# Altium footprint library 4.35-HT-3.96mm连接器.PcbLib: 60 footprints (part 2 of 4)
Each footprint in its own frame and in the unit in brackets; x right, y up, seen from the top. Pads: shape width x height; smd on the part's side, far side on the other; paste and mask are expansions set on the pad; w line width, h text height; cw(c..) or ccw(c..) is an arc to the next point about the centre after c.
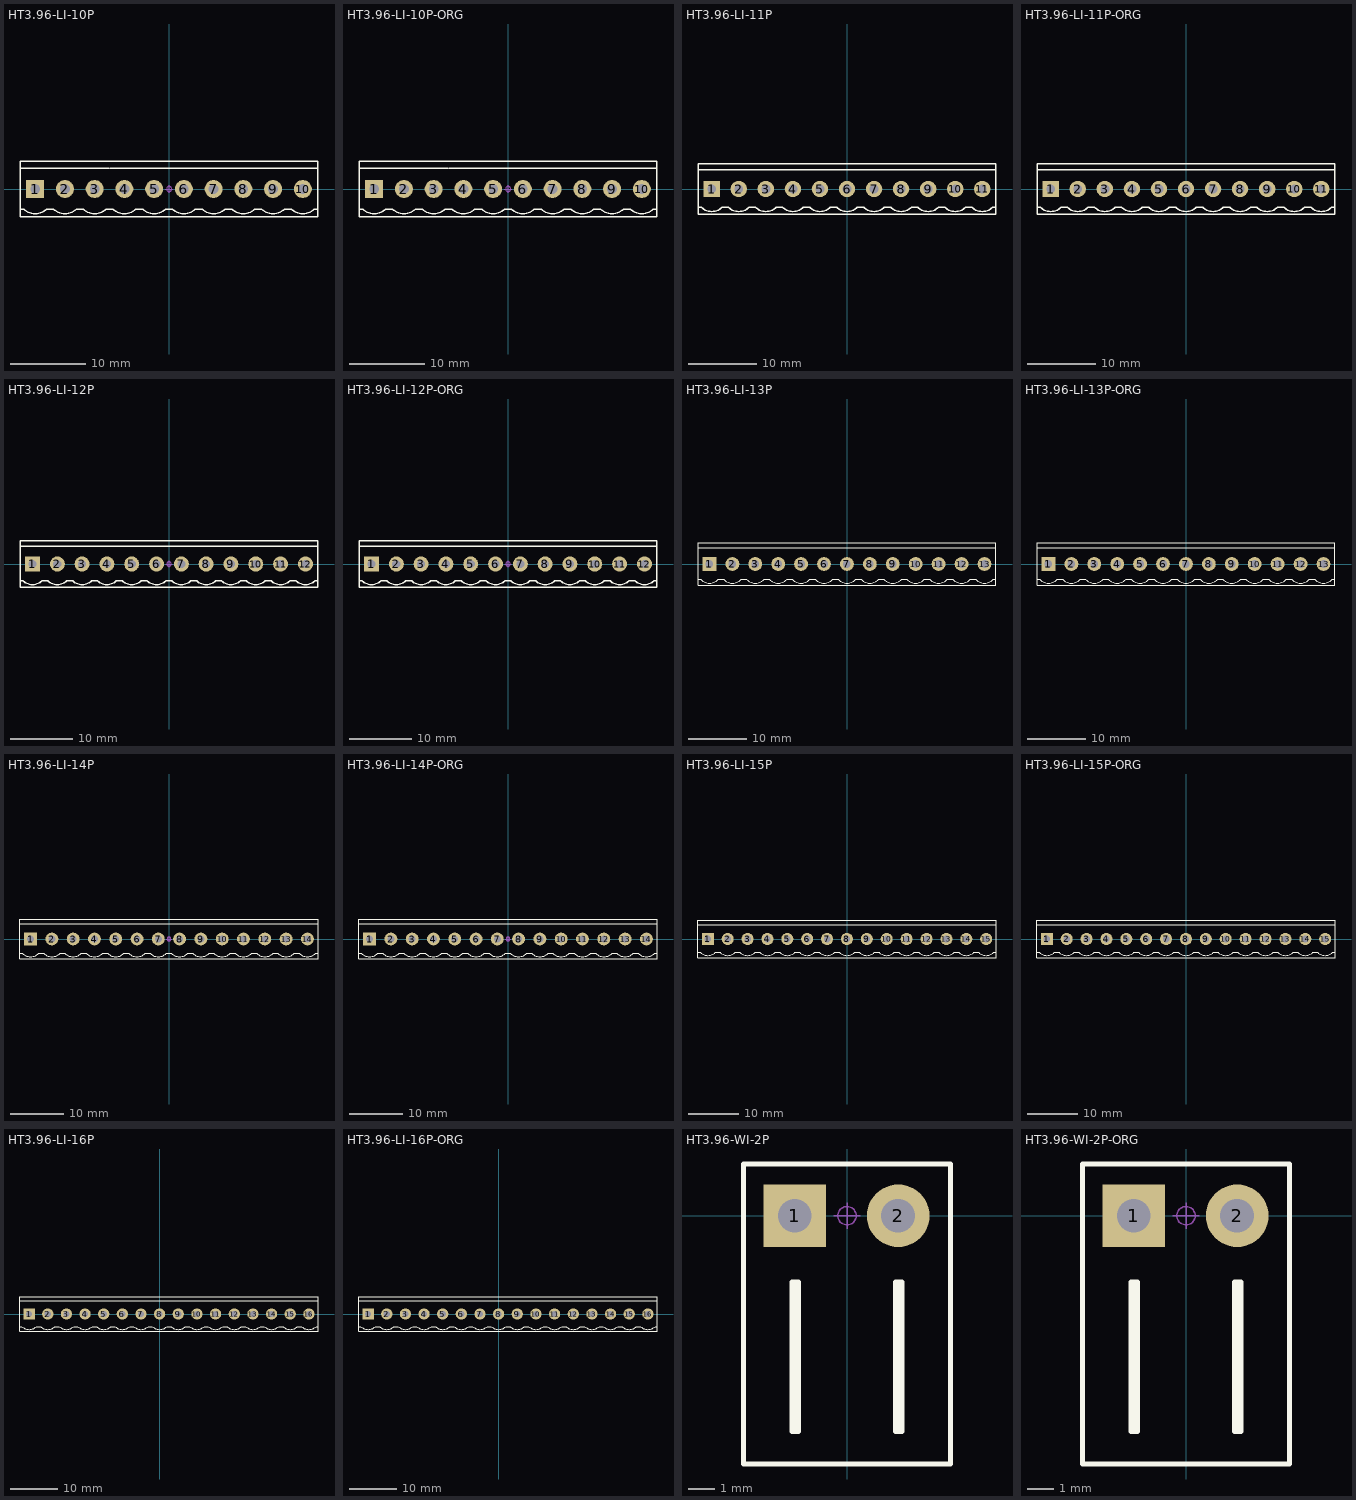
[diagram p1: the footprints below, top view; thin cyan lines are the x and y axes]

## HT3.96-LI-10P [mm] "HT3.96立插端子"
pads (10):
  rect 2.4x2.4 hole 1.3: 1(-17.84,0)
  round 2.4 hole 1.3: 2(-13.88,0) 3(-9.92,0) 4(-5.96,0) 5(-2,0) 6(1.96,0) 7(5.92,0) 8(9.88,0) 9(13.84,0) 10(17.8,0)
Top Overlay:
  lines w0.203: -19.82,-2.667 -19.364,-2.667 ccw(c-17.84,-1.143) -16.316,-2.667 -15.86,-2.667 -15.404,-2.667 ccw(c-13.88,-1.143) -12.356,-2.667 -11.9,-2.667 -11.444,-2.667 ccw(c-9.92,-1.143) -8.396,-2.667 -7.94,-2.667 -7.484,-2.667 ccw(c-5.96,-1.143) -4.436,-2.667 -3.98,-2.667 -3.524,-2.667 ccw(c-2,-1.143) -0.476,-2.667 -0.02,-2.667 0.436,-2.667 ccw(c1.96,-1.143) 3.484,-2.667 3.94,-2.667 4.396,-2.667 ccw(c5.92,-1.143) 7.444,-2.667 7.9,-2.667 8.356,-2.667 ccw(c9.88,-1.143) 11.404,-2.667 11.86,-2.667 12.316,-2.667 ccw(c13.84,-1.143) 15.364,-2.667 15.82,-2.667 16.276,-2.667 ccw(c17.8,-1.143) 19.324,-2.667 19.78,-2.667 ; -19.82,2.794 -15.935,2.794 ; -15.86,2.794 -11.975,2.794 ; -11.9,2.794 -8.015,2.794 ; -7.94,2.794 -4.055,2.794 ; -3.98,2.794 -0.095,2.794 ; -0.02,2.794 3.865,2.794 ; 3.94,2.794 7.825,2.794 ; 7.9,2.794 11.785,2.794 ; 11.86,2.794 15.745,2.794 ; 15.82,2.794 19.705,2.794 ; -19.82,-3.7 -15.86,-3.7 -11.9,-3.7 -7.94,-3.7 -3.98,-3.7 -0.02,-3.7 3.94,-3.7 7.9,-3.7 11.86,-3.7 15.82,-3.7 19.78,-3.7 19.78,3.7 15.82,3.7 11.86,3.7 7.9,3.7 3.94,3.7 -0.02,3.7 -3.98,3.7 -7.94,3.7 -11.9,3.7 -15.86,3.7 -19.82,3.7 -19.82,-3.7
Mechanical 15:
  circle w0.05: c0,0 r0.35
  lines w0.05: -0.5,0 0.5,0 ; 0,-0.5 0,0.5
3D body "HT3.96-LI-1P.STEP": height 10.05, standoff -2.95, extent -19.82,-3.7 -15.82,3.7
3D body "HT3.96-LI-1P.STEP": height 10.05, standoff -2.95, extent -15.86,-3.7 -11.86,3.7
3D body "HT3.96-LI-1P.STEP": height 10.05, standoff -2.95, extent -11.9,-3.7 -7.9,3.7
3D body "HT3.96-LI-1P.STEP": height 10.05, standoff -2.95, extent -7.94,-3.7 -3.94,3.7
3D body "HT3.96-LI-1P.STEP": height 10.05, standoff -2.95, extent -3.98,-3.7 0.02,3.7
3D body "HT3.96-LI-1P.STEP": height 10.05, standoff -2.95, extent -0.02,-3.7 3.98,3.7
3D body "HT3.96-LI-1P.STEP": height 10.05, standoff -2.95, extent 3.94,-3.7 7.94,3.7
3D body "HT3.96-LI-1P.STEP": height 10.05, standoff -2.95, extent 7.9,-3.7 11.9,3.7
3D body "HT3.96-LI-1P.STEP": height 10.05, standoff -2.95, extent 11.86,-3.7 15.86,3.7
3D body "HT3.96-LI-1P.STEP": height 10.05, standoff -2.95, extent 15.82,-3.7 19.82,3.7

## HT3.96-LI-10P-ORG [mm] "HT3.96立插端子"
pads (10):
  rect 2.4x2.4 hole 1.3: 1(-17.84,0)
  round 2.4 hole 1.3: 2(-13.88,0) 3(-9.92,0) 4(-5.96,0) 5(-2,0) 6(1.96,0) 7(5.92,0) 8(9.88,0) 9(13.84,0) 10(17.8,0)
Top Overlay:
  lines w0.203: -19.82,-2.667 -19.364,-2.667 ccw(c-17.84,-1.143) -16.316,-2.667 -15.86,-2.667 -15.404,-2.667 ccw(c-13.88,-1.143) -12.356,-2.667 -11.9,-2.667 -11.444,-2.667 ccw(c-9.92,-1.143) -8.396,-2.667 -7.94,-2.667 -7.484,-2.667 ccw(c-5.96,-1.143) -4.436,-2.667 -3.98,-2.667 -3.524,-2.667 ccw(c-2,-1.143) -0.476,-2.667 -0.02,-2.667 0.436,-2.667 ccw(c1.96,-1.143) 3.484,-2.667 3.94,-2.667 4.396,-2.667 ccw(c5.92,-1.143) 7.444,-2.667 7.9,-2.667 8.356,-2.667 ccw(c9.88,-1.143) 11.404,-2.667 11.86,-2.667 12.316,-2.667 ccw(c13.84,-1.143) 15.364,-2.667 15.82,-2.667 16.276,-2.667 ccw(c17.8,-1.143) 19.324,-2.667 19.78,-2.667 ; -19.82,2.794 -15.935,2.794 ; -15.86,2.794 -11.975,2.794 ; -11.9,2.794 -8.015,2.794 ; -7.94,2.794 -4.055,2.794 ; -3.98,2.794 -0.095,2.794 ; -0.02,2.794 3.865,2.794 ; 3.94,2.794 7.825,2.794 ; 7.9,2.794 11.785,2.794 ; 11.86,2.794 15.745,2.794 ; 15.82,2.794 19.705,2.794 ; -19.82,-3.7 -15.86,-3.7 -11.9,-3.7 -7.94,-3.7 -3.98,-3.7 -0.02,-3.7 3.94,-3.7 7.9,-3.7 11.86,-3.7 15.82,-3.7 19.78,-3.7 19.78,3.7 15.82,3.7 11.86,3.7 7.9,3.7 3.94,3.7 -0.02,3.7 -3.98,3.7 -7.94,3.7 -11.9,3.7 -15.86,3.7 -19.82,3.7 -19.82,-3.7
Mechanical 15:
  circle w0.05: c0,0 r0.35
  lines w0.05: -0.5,0 0.5,0 ; 0,-0.5 0,0.5
3D body "HT3.96-LI-1P-ORG.STEP": height 10.05, standoff -2.95, extent 11.86,-3.7 15.86,3.7
3D body "HT3.96-LI-1P-ORG.STEP": height 10.05, standoff -2.95, extent 15.82,-3.7 19.82,3.7
3D body "HT3.96-LI-1P-ORG.STEP": height 10.05, standoff -2.95, extent 3.94,-3.7 7.94,3.7
3D body "HT3.96-LI-1P-ORG.STEP": height 10.05, standoff -2.95, extent 7.9,-3.7 11.9,3.7
3D body "HT3.96-LI-1P-ORG.STEP": height 10.05, standoff -2.95, extent -3.98,-3.7 0.02,3.7
3D body "HT3.96-LI-1P-ORG.STEP": height 10.05, standoff -2.95, extent -0.02,-3.7 3.98,3.7
3D body "HT3.96-LI-1P-ORG.STEP": height 10.05, standoff -2.95, extent -11.9,-3.7 -7.9,3.7
3D body "HT3.96-LI-1P-ORG.STEP": height 10.05, standoff -2.95, extent -7.94,-3.7 -3.94,3.7
3D body "HT3.96-LI-1P-ORG.STEP": height 10.05, standoff -2.95, extent -19.82,-3.7 -15.82,3.7
3D body "HT3.96-LI-1P-ORG.STEP": height 10.05, standoff -2.95, extent -15.86,-3.7 -11.86,3.7

## HT3.96-LI-11P [mm] "HT3.96立插端子"
pads (11):
  rect 2.4x2.4 hole 1.3: 1(-19.82,0)
  round 2.4 hole 1.3: 2(-15.86,0) 3(-11.9,0) 4(-7.94,0) 5(-3.98,0) 6(-0.02,0) 7(3.94,0) 8(7.9,0) 9(11.86,0) 10(15.82,0) 11(19.78,0)
Top Overlay:
  lines w0.203: -21.8,-2.667 -21.344,-2.667 ccw(c-19.82,-1.143) -18.296,-2.667 -17.84,-2.667 -17.384,-2.667 ccw(c-15.86,-1.143) -14.336,-2.667 -13.88,-2.667 -13.424,-2.667 ccw(c-11.9,-1.143) -10.376,-2.667 -9.92,-2.667 -9.464,-2.667 ccw(c-7.94,-1.143) -6.416,-2.667 -5.96,-2.667 -5.504,-2.667 ccw(c-3.98,-1.143) -2.456,-2.667 -2,-2.667 -1.544,-2.667 ccw(c-0.02,-1.143) 1.504,-2.667 1.96,-2.667 2.416,-2.667 ccw(c3.94,-1.143) 5.464,-2.667 5.92,-2.667 6.376,-2.667 ccw(c7.9,-1.143) 9.424,-2.667 9.88,-2.667 10.336,-2.667 ccw(c11.86,-1.143) 13.384,-2.667 13.84,-2.667 14.296,-2.667 ccw(c15.82,-1.143) 17.344,-2.667 ; -21.8,2.794 -17.915,2.794 ; -17.84,2.794 -13.955,2.794 ; -13.88,2.794 -9.995,2.794 ; -9.92,2.794 -6.035,2.794 ; -5.96,2.794 -2.075,2.794 ; -2,2.794 1.885,2.794 ; 1.96,2.794 5.845,2.794 ; 5.92,2.794 9.805,2.794 ; 9.88,2.794 13.765,2.794 ; 13.84,2.794 17.725,2.794 ; 17.8,2.794 21.685,2.794 ; 21.76,-2.667 21.304,-2.667 cw(c19.78,-1.143) 18.256,-2.667 17.8,-2.667 ; 17.344,-2.667 17.8,-2.667 ; 17.344,-2.667 17.8,-2.667 ; -21.8,-3.7 -17.84,-3.7 -13.88,-3.7 -9.92,-3.7 -5.96,-3.7 -2,-3.7 1.96,-3.7 5.92,-3.7 9.88,-3.7 13.84,-3.7 17.8,-3.7 21.76,-3.7 21.76,3.7 17.8,3.7 13.84,3.7 9.88,3.7 5.92,3.7 1.96,3.7 -2,3.7 -5.96,3.7 -9.92,3.7 -13.88,3.7 -17.84,3.7 -21.8,3.7 -21.8,-3.7
Mechanical 15:
  circle w0.05: c0,0 r0.35
  lines w0.05: -0.5,0 0.5,0 ; 0,-0.5 0,0.5
3D body "HT3.96-LI-1P.STEP": height 10.05, standoff -2.95, extent 17.8,-3.7 21.8,3.7
3D body "HT3.96-LI-1P.STEP": height 10.05, standoff -2.95, extent 13.84,-3.7 17.84,3.7
3D body "HT3.96-LI-1P.STEP": height 10.05, standoff -2.95, extent 9.88,-3.7 13.88,3.7
3D body "HT3.96-LI-1P.STEP": height 10.05, standoff -2.95, extent 5.92,-3.7 9.92,3.7
3D body "HT3.96-LI-1P.STEP": height 10.05, standoff -2.95, extent 1.96,-3.7 5.96,3.7
3D body "HT3.96-LI-1P.STEP": height 10.05, standoff -2.95, extent -2,-3.7 2,3.7
3D body "HT3.96-LI-1P.STEP": height 10.05, standoff -2.95, extent -5.96,-3.7 -1.96,3.7
3D body "HT3.96-LI-1P.STEP": height 10.05, standoff -2.95, extent -9.92,-3.7 -5.92,3.7
3D body "HT3.96-LI-1P.STEP": height 10.05, standoff -2.95, extent -13.88,-3.7 -9.88,3.7
3D body "HT3.96-LI-1P.STEP": height 10.05, standoff -2.95, extent -17.84,-3.7 -13.84,3.7
3D body "HT3.96-LI-1P.STEP": height 10.05, standoff -2.95, extent -21.8,-3.7 -17.8,3.7

## HT3.96-LI-11P-ORG [mm] "HT3.96立插端子"
pads (11):
  rect 2.4x2.4 hole 1.3: 1(-19.82,0)
  round 2.4 hole 1.3: 2(-15.86,0) 3(-11.9,0) 4(-7.94,0) 5(-3.98,0) 6(-0.02,0) 7(3.94,0) 8(7.9,0) 9(11.86,0) 10(15.82,0) 11(19.78,0)
Top Overlay:
  lines w0.203: -21.8,-2.667 -21.344,-2.667 ccw(c-19.82,-1.143) -18.296,-2.667 -17.84,-2.667 -17.384,-2.667 ccw(c-15.86,-1.143) -14.336,-2.667 -13.88,-2.667 -13.424,-2.667 ccw(c-11.9,-1.143) -10.376,-2.667 -9.92,-2.667 -9.464,-2.667 ccw(c-7.94,-1.143) -6.416,-2.667 -5.96,-2.667 -5.504,-2.667 ccw(c-3.98,-1.143) -2.456,-2.667 -2,-2.667 -1.544,-2.667 ccw(c-0.02,-1.143) 1.504,-2.667 1.96,-2.667 2.416,-2.667 ccw(c3.94,-1.143) 5.464,-2.667 5.92,-2.667 6.376,-2.667 ccw(c7.9,-1.143) 9.424,-2.667 9.88,-2.667 10.336,-2.667 ccw(c11.86,-1.143) 13.384,-2.667 13.84,-2.667 14.296,-2.667 ccw(c15.82,-1.143) 17.344,-2.667 ; -21.8,2.794 -17.915,2.794 ; -17.84,2.794 -13.955,2.794 ; -13.88,2.794 -9.995,2.794 ; -9.92,2.794 -6.035,2.794 ; -5.96,2.794 -2.075,2.794 ; -2,2.794 1.885,2.794 ; 1.96,2.794 5.845,2.794 ; 5.92,2.794 9.805,2.794 ; 9.88,2.794 13.765,2.794 ; 13.84,2.794 17.725,2.794 ; 17.8,2.794 21.685,2.794 ; 21.76,-2.667 21.304,-2.667 cw(c19.78,-1.143) 18.256,-2.667 17.8,-2.667 ; 17.344,-2.667 17.8,-2.667 ; 17.344,-2.667 17.8,-2.667 ; -21.8,-3.7 -21.8,3.7 -17.84,3.7 -13.88,3.7 -9.92,3.7 -5.96,3.7 -2,3.7 1.96,3.7 5.92,3.7 9.88,3.7 13.84,3.7 17.8,3.7 21.76,3.7 21.76,-3.7 17.8,-3.7 13.84,-3.7 9.88,-3.7 5.92,-3.7 1.96,-3.7 -2,-3.7 -5.96,-3.7 -9.92,-3.7 -13.88,-3.7 -17.84,-3.7 -21.8,-3.7
Mechanical 15:
  circle w0.05: c0,0 r0.35
  lines w0.05: -0.5,0 0.5,0 ; 0,-0.5 0,0.5
3D body "HT3.96-LI-1P-ORG.STEP": height 10.05, standoff -2.95, extent 17.8,-3.7 21.8,3.7
3D body "HT3.96-LI-1P-ORG.STEP": height 10.05, standoff -2.95, extent 9.88,-3.7 13.88,3.7
3D body "HT3.96-LI-1P-ORG.STEP": height 10.05, standoff -2.95, extent 13.84,-3.7 17.84,3.7
3D body "HT3.96-LI-1P-ORG.STEP": height 10.05, standoff -2.95, extent 1.96,-3.7 5.96,3.7
3D body "HT3.96-LI-1P-ORG.STEP": height 10.05, standoff -2.95, extent 5.92,-3.7 9.92,3.7
3D body "HT3.96-LI-1P-ORG.STEP": height 10.05, standoff -2.95, extent -5.96,-3.7 -1.96,3.7
3D body "HT3.96-LI-1P-ORG.STEP": height 10.05, standoff -2.95, extent -2,-3.7 2,3.7
3D body "HT3.96-LI-1P-ORG.STEP": height 10.05, standoff -2.95, extent -13.88,-3.7 -9.88,3.7
3D body "HT3.96-LI-1P-ORG.STEP": height 10.05, standoff -2.95, extent -9.92,-3.7 -5.92,3.7
3D body "HT3.96-LI-1P-ORG.STEP": height 10.05, standoff -2.95, extent -21.8,-3.7 -17.8,3.7
3D body "HT3.96-LI-1P-ORG.STEP": height 10.05, standoff -2.95, extent -17.84,-3.7 -13.84,3.7

## HT3.96-LI-12P [mm] "HT3.96立插端子"
pads (12):
  rect 2.4x2.4 hole 1.3: 1(-21.8,0)
  round 2.4 hole 1.3: 2(-17.84,0) 3(-13.88,0) 4(-9.92,0) 5(-5.96,0) 6(-2,0) 7(1.96,0) 8(5.92,0) 9(9.88,0) 10(13.84,0) 11(17.8,0) 12(21.78,0)
Top Overlay:
  lines w0.203: -23.78,-2.667 -23.324,-2.667 ccw(c-21.8,-1.143) -20.276,-2.667 -19.82,-2.667 -19.364,-2.667 ccw(c-17.84,-1.143) -16.316,-2.667 -15.86,-2.667 -15.404,-2.667 ccw(c-13.88,-1.143) -12.356,-2.667 -11.9,-2.667 -11.444,-2.667 ccw(c-9.92,-1.143) -8.396,-2.667 -7.94,-2.667 -7.484,-2.667 ccw(c-5.96,-1.143) -4.436,-2.667 -3.98,-2.667 -3.524,-2.667 ccw(c-2,-1.143) -0.476,-2.667 -0.02,-2.667 0.436,-2.667 ccw(c1.96,-1.143) 3.484,-2.667 3.94,-2.667 4.396,-2.667 ccw(c5.92,-1.143) 7.444,-2.667 7.9,-2.667 8.356,-2.667 ccw(c9.88,-1.143) 11.404,-2.667 11.86,-2.667 12.316,-2.667 ccw(c13.84,-1.143) 15.364,-2.667 ; -23.78,2.794 -19.895,2.794 ; -19.82,2.794 -15.935,2.794 ; -15.86,2.794 -11.975,2.794 ; -11.9,2.794 -8.015,2.794 ; -7.94,2.794 -4.055,2.794 ; -3.98,2.794 -0.095,2.794 ; -0.02,2.794 3.865,2.794 ; 3.94,2.794 7.825,2.794 ; 7.9,2.794 11.785,2.794 ; 11.86,2.794 15.745,2.794 ; 15.82,2.794 19.705,2.794 ; 19.78,-3.7 15.82,-3.7 11.86,-3.7 7.9,-3.7 3.94,-3.7 -0.02,-3.7 -3.98,-3.7 -7.94,-3.7 -11.9,-3.7 -15.86,-3.7 -19.82,-3.7 -23.78,-3.7 -23.78,3.7 -19.82,3.7 -15.86,3.7 -11.9,3.7 -7.94,3.7 -3.98,3.7 -0.02,3.7 3.94,3.7 7.9,3.7 11.86,3.7 15.82,3.7 19.78,3.7 ; 19.78,-2.667 19.324,-2.667 cw(c17.8,-1.143) 16.276,-2.667 15.82,-2.667 ; 19.8,-3.7 23.76,-3.7 23.76,3.7 19.8,3.7 ; 19.8,2.794 23.685,2.794 ; 15.364,-2.667 15.82,-2.667 ; 15.364,-2.667 15.82,-2.667 ; 19.8,-2.667 19.344,-2.667 19.8,-2.667 ; 19.8,-2.667 20.256,-2.667 ccw(c21.78,-1.143) 23.304,-2.667 ; 23.304,-2.667 23.76,-2.667 ; 23.304,-2.667 23.76,-2.667 ; 23.304,-2.667 23.76,-2.667
Mechanical 15:
  circle w0.05: c0,0 r0.35
  lines w0.05: -0.5,0 0.5,0 ; 0,-0.5 0,0.5
3D body "HT3.96-LI-1P.STEP": height 10.05, standoff -2.95, extent 19.78,-3.7 23.78,3.7
3D body "HT3.96-LI-1P.STEP": height 10.05, standoff -2.95, extent 15.82,-3.7 19.82,3.7
3D body "HT3.96-LI-1P.STEP": height 10.05, standoff -2.95, extent 11.86,-3.7 15.86,3.7
3D body "HT3.96-LI-1P.STEP": height 10.05, standoff -2.95, extent 7.9,-3.7 11.9,3.7
3D body "HT3.96-LI-1P.STEP": height 10.05, standoff -2.95, extent 3.94,-3.7 7.94,3.7
3D body "HT3.96-LI-1P.STEP": height 10.05, standoff -2.95, extent -0.02,-3.7 3.98,3.7
3D body "HT3.96-LI-1P.STEP": height 10.05, standoff -2.95, extent -3.98,-3.7 0.02,3.7
3D body "HT3.96-LI-1P.STEP": height 10.05, standoff -2.95, extent -7.94,-3.7 -3.94,3.7
3D body "HT3.96-LI-1P.STEP": height 10.05, standoff -2.95, extent -11.9,-3.7 -7.9,3.7
3D body "HT3.96-LI-1P.STEP": height 10.05, standoff -2.95, extent -15.86,-3.7 -11.86,3.7
3D body "HT3.96-LI-1P.STEP": height 10.05, standoff -2.95, extent -19.82,-3.7 -15.82,3.7
3D body "HT3.96-LI-1P.STEP": height 10.05, standoff -2.95, extent -23.78,-3.7 -19.78,3.7

## HT3.96-LI-12P-ORG [mm] "HT3.96立插端子"
pads (12):
  rect 2.4x2.4 hole 1.3: 1(-21.8,0)
  round 2.4 hole 1.3: 2(-17.84,0) 3(-13.88,0) 4(-9.92,0) 5(-5.96,0) 6(-2,0) 7(1.96,0) 8(5.92,0) 9(9.88,0) 10(13.84,0) 11(17.8,0) 12(21.78,0)
Top Overlay:
  lines w0.203: -23.78,-2.667 -23.324,-2.667 ccw(c-21.8,-1.143) -20.276,-2.667 -19.82,-2.667 -19.364,-2.667 ccw(c-17.84,-1.143) -16.316,-2.667 -15.86,-2.667 -15.404,-2.667 ccw(c-13.88,-1.143) -12.356,-2.667 -11.9,-2.667 -11.444,-2.667 ccw(c-9.92,-1.143) -8.396,-2.667 -7.94,-2.667 -7.484,-2.667 ccw(c-5.96,-1.143) -4.436,-2.667 -3.98,-2.667 -3.524,-2.667 ccw(c-2,-1.143) -0.476,-2.667 -0.02,-2.667 0.436,-2.667 ccw(c1.96,-1.143) 3.484,-2.667 3.94,-2.667 4.396,-2.667 ccw(c5.92,-1.143) 7.444,-2.667 7.9,-2.667 8.356,-2.667 ccw(c9.88,-1.143) 11.404,-2.667 11.86,-2.667 12.316,-2.667 ccw(c13.84,-1.143) 15.364,-2.667 ; -23.78,2.794 -19.895,2.794 ; -19.82,2.794 -15.935,2.794 ; -15.86,2.794 -11.975,2.794 ; -11.9,2.794 -8.015,2.794 ; -7.94,2.794 -4.055,2.794 ; -3.98,2.794 -0.095,2.794 ; -0.02,2.794 3.865,2.794 ; 3.94,2.794 7.825,2.794 ; 7.9,2.794 11.785,2.794 ; 11.86,2.794 15.745,2.794 ; 15.82,2.794 19.705,2.794 ; 19.78,-3.7 15.82,-3.7 11.86,-3.7 7.9,-3.7 3.94,-3.7 -0.02,-3.7 -3.98,-3.7 -7.94,-3.7 -11.9,-3.7 -15.86,-3.7 -19.82,-3.7 -23.78,-3.7 -23.78,3.7 -19.82,3.7 -15.86,3.7 -11.9,3.7 -7.94,3.7 -3.98,3.7 -0.02,3.7 3.94,3.7 7.9,3.7 11.86,3.7 15.82,3.7 19.78,3.7 ; 19.78,-2.667 19.324,-2.667 cw(c17.8,-1.143) 16.276,-2.667 15.82,-2.667 ; 19.8,-3.7 23.76,-3.7 23.76,3.7 19.8,3.7 ; 19.8,2.794 23.685,2.794 ; 15.364,-2.667 15.82,-2.667 ; 15.364,-2.667 15.82,-2.667 ; 19.8,-2.667 19.344,-2.667 19.8,-2.667 ; 19.8,-2.667 20.256,-2.667 ccw(c21.78,-1.143) 23.304,-2.667 ; 23.304,-2.667 23.76,-2.667 ; 23.304,-2.667 23.76,-2.667 ; 23.304,-2.667 23.76,-2.667
Mechanical 15:
  circle w0.05: c0,0 r0.35
  lines w0.05: -0.5,0 0.5,0 ; 0,-0.5 0,0.5
3D body "HT3.96-LI-1P-ORG.STEP": height 10.05, standoff -2.95, extent 15.82,-3.7 19.82,3.7
3D body "HT3.96-LI-1P-ORG.STEP": height 10.05, standoff -2.95, extent 19.78,-3.7 23.78,3.7
3D body "HT3.96-LI-1P-ORG.STEP": height 10.05, standoff -2.95, extent 7.9,-3.7 11.9,3.7
3D body "HT3.96-LI-1P-ORG.STEP": height 10.05, standoff -2.95, extent 11.86,-3.7 15.86,3.7
3D body "HT3.96-LI-1P-ORG.STEP": height 10.05, standoff -2.95, extent -0.02,-3.7 3.98,3.7
3D body "HT3.96-LI-1P-ORG.STEP": height 10.05, standoff -2.95, extent 3.94,-3.7 7.94,3.7
3D body "HT3.96-LI-1P-ORG.STEP": height 10.05, standoff -2.95, extent -7.94,-3.7 -3.94,3.7
3D body "HT3.96-LI-1P-ORG.STEP": height 10.05, standoff -2.95, extent -3.98,-3.7 0.02,3.7
3D body "HT3.96-LI-1P-ORG.STEP": height 10.05, standoff -2.95, extent -15.86,-3.7 -11.86,3.7
3D body "HT3.96-LI-1P-ORG.STEP": height 10.05, standoff -2.95, extent -11.9,-3.7 -7.9,3.7
3D body "HT3.96-LI-1P-ORG.STEP": height 10.05, standoff -2.95, extent -23.78,-3.7 -19.78,3.7
3D body "HT3.96-LI-1P-ORG.STEP": height 10.05, standoff -2.95, extent -19.82,-3.7 -15.82,3.7

## HT3.96-LI-13P [mm] "HT3.96立插端子"
pads (13):
  rect 2.4x2.4 hole 1.3: 1(-23.78,0)
  round 2.4 hole 1.3: 2(-19.82,0) 3(-15.86,0) 4(-11.9,0) 5(-7.94,0) 6(-3.98,0) 7(-0.02,0) 8(3.94,0) 9(7.9,0) 10(11.86,0) 11(15.82,0) 12(19.8,0) 13(23.76,0)
Top Overlay:
  lines w0.203: -25.76,-2.667 -25.304,-2.667 ccw(c-23.78,-1.143) -22.256,-2.667 -21.8,-2.667 -21.344,-2.667 ccw(c-19.82,-1.143) -18.296,-2.667 -17.84,-2.667 -17.384,-2.667 ccw(c-15.86,-1.143) -14.336,-2.667 -13.88,-2.667 -13.424,-2.667 ccw(c-11.9,-1.143) -10.376,-2.667 -9.92,-2.667 -9.464,-2.667 ccw(c-7.94,-1.143) -6.416,-2.667 -5.96,-2.667 -5.504,-2.667 ccw(c-3.98,-1.143) -2.456,-2.667 -2,-2.667 -1.544,-2.667 ccw(c-0.02,-1.143) 1.504,-2.667 1.96,-2.667 2.416,-2.667 ccw(c3.94,-1.143) 5.464,-2.667 5.92,-2.667 6.376,-2.667 ccw(c7.9,-1.143) 9.424,-2.667 9.88,-2.667 10.336,-2.667 ccw(c11.86,-1.143) 13.384,-2.667 ; -25.76,2.794 -21.875,2.794 ; -21.8,2.794 -17.915,2.794 ; -17.84,2.794 -13.955,2.794 ; -13.88,2.794 -9.995,2.794 ; -9.92,2.794 -6.035,2.794 ; -5.96,2.794 -2.075,2.794 ; -2,2.794 1.885,2.794 ; 1.96,2.794 5.845,2.794 ; 5.92,2.794 9.805,2.794 ; 9.88,2.794 13.765,2.794 ; 13.84,2.794 17.725,2.794 ; 17.8,-3.7 13.84,-3.7 9.88,-3.7 5.92,-3.7 1.96,-3.7 -2,-3.7 -5.96,-3.7 -9.92,-3.7 -13.88,-3.7 -17.84,-3.7 -21.8,-3.7 -25.76,-3.7 -25.76,3.7 -21.8,3.7 -17.84,3.7 -13.88,3.7 -9.92,3.7 -5.96,3.7 -2,3.7 1.96,3.7 5.92,3.7 9.88,3.7 13.84,3.7 17.8,3.7 ; 17.8,-2.667 17.344,-2.667 cw(c15.82,-1.143) 14.296,-2.667 13.84,-2.667 ; 17.82,-3.7 21.78,-3.7 25.74,-3.7 25.74,3.7 21.78,3.7 17.82,3.7 ; 17.82,2.794 21.705,2.794 ; 21.78,2.794 25.665,2.794 ; 13.384,-2.667 13.84,-2.667 ; 13.384,-2.667 13.84,-2.667 ; 17.82,-2.667 17.364,-2.667 17.82,-2.667 ; 17.82,-2.667 18.276,-2.667 ccw(c19.8,-1.143) 21.324,-2.667 ; 21.324,-2.667 21.78,-2.667 ; 21.324,-2.667 21.78,-2.667 ; 21.324,-2.667 21.78,-2.667 ; 21.78,-2.667 22.236,-2.667 ccw(c23.76,-1.143) 25.284,-2.667 ; 25.284,-2.667 25.74,-2.667 ; 25.284,-2.667 25.74,-2.667 ; 25.284,-2.667 25.74,-2.667
Mechanical 15:
  circle w0.05: c0,0 r0.35
  lines w0.05: -0.5,0 0.5,0 ; 0,-0.5 0,0.5
3D body "HT3.96-LI-1P.STEP": height 10.05, standoff -2.95, extent 21.76,-3.7 25.76,3.7
3D body "HT3.96-LI-1P.STEP": height 10.05, standoff -2.95, extent 17.8,-3.7 21.8,3.7
3D body "HT3.96-LI-1P.STEP": height 10.05, standoff -2.95, extent 13.84,-3.7 17.84,3.7
3D body "HT3.96-LI-1P.STEP": height 10.05, standoff -2.95, extent 9.88,-3.7 13.88,3.7
3D body "HT3.96-LI-1P.STEP": height 10.05, standoff -2.95, extent 5.92,-3.7 9.92,3.7
3D body "HT3.96-LI-1P.STEP": height 10.05, standoff -2.95, extent 1.96,-3.7 5.96,3.7
3D body "HT3.96-LI-1P.STEP": height 10.05, standoff -2.95, extent -2,-3.7 2,3.7
3D body "HT3.96-LI-1P.STEP": height 10.05, standoff -2.95, extent -5.96,-3.7 -1.96,3.7
3D body "HT3.96-LI-1P.STEP": height 10.05, standoff -2.95, extent -9.92,-3.7 -5.92,3.7
3D body "HT3.96-LI-1P.STEP": height 10.05, standoff -2.95, extent -13.88,-3.7 -9.88,3.7
3D body "HT3.96-LI-1P.STEP": height 10.05, standoff -2.95, extent -17.84,-3.7 -13.84,3.7
3D body "HT3.96-LI-1P.STEP": height 10.05, standoff -2.95, extent -21.8,-3.7 -17.8,3.7
3D body "HT3.96-LI-1P.STEP": height 10.05, standoff -2.95, extent -25.76,-3.7 -21.76,3.7

## HT3.96-LI-13P-ORG [mm] "HT3.96立插端子"
pads (13):
  rect 2.4x2.4 hole 1.3: 1(-23.78,0)
  round 2.4 hole 1.3: 2(-19.82,0) 3(-15.86,0) 4(-11.9,0) 5(-7.94,0) 6(-3.98,0) 7(-0.02,0) 8(3.94,0) 9(7.9,0) 10(11.86,0) 11(15.82,0) 12(19.8,0) 13(23.76,0)
Top Overlay:
  lines w0.203: -25.76,-2.667 -25.304,-2.667 ccw(c-23.78,-1.143) -22.256,-2.667 -21.8,-2.667 -21.344,-2.667 ccw(c-19.82,-1.143) -18.296,-2.667 -17.84,-2.667 -17.384,-2.667 ccw(c-15.86,-1.143) -14.336,-2.667 -13.88,-2.667 -13.424,-2.667 ccw(c-11.9,-1.143) -10.376,-2.667 -9.92,-2.667 -9.464,-2.667 ccw(c-7.94,-1.143) -6.416,-2.667 -5.96,-2.667 -5.504,-2.667 ccw(c-3.98,-1.143) -2.456,-2.667 -2,-2.667 -1.544,-2.667 ccw(c-0.02,-1.143) 1.504,-2.667 1.96,-2.667 2.416,-2.667 ccw(c3.94,-1.143) 5.464,-2.667 5.92,-2.667 6.376,-2.667 ccw(c7.9,-1.143) 9.424,-2.667 9.88,-2.667 10.336,-2.667 ccw(c11.86,-1.143) 13.384,-2.667 ; -25.76,2.794 -21.875,2.794 ; -21.8,2.794 -17.915,2.794 ; -17.84,2.794 -13.955,2.794 ; -13.88,2.794 -9.995,2.794 ; -9.92,2.794 -6.035,2.794 ; -5.96,2.794 -2.075,2.794 ; -2,2.794 1.885,2.794 ; 1.96,2.794 5.845,2.794 ; 5.92,2.794 9.805,2.794 ; 9.88,2.794 13.765,2.794 ; 13.84,2.794 17.725,2.794 ; 17.8,-3.7 13.84,-3.7 9.88,-3.7 5.92,-3.7 1.96,-3.7 -2,-3.7 -5.96,-3.7 -9.92,-3.7 -13.88,-3.7 -17.84,-3.7 -21.8,-3.7 -25.76,-3.7 -25.76,3.7 -21.8,3.7 -17.84,3.7 -13.88,3.7 -9.92,3.7 -5.96,3.7 -2,3.7 1.96,3.7 5.92,3.7 9.88,3.7 13.84,3.7 17.8,3.7 ; 17.8,-2.667 17.344,-2.667 cw(c15.82,-1.143) 14.296,-2.667 13.84,-2.667 ; 17.82,-3.7 21.78,-3.7 25.74,-3.7 25.74,3.7 21.78,3.7 17.82,3.7 ; 17.82,2.794 21.705,2.794 ; 21.78,2.794 25.665,2.794 ; 13.384,-2.667 13.84,-2.667 ; 13.384,-2.667 13.84,-2.667 ; 17.82,-2.667 17.364,-2.667 17.82,-2.667 ; 17.82,-2.667 18.276,-2.667 ccw(c19.8,-1.143) 21.324,-2.667 ; 21.324,-2.667 21.78,-2.667 ; 21.324,-2.667 21.78,-2.667 ; 21.324,-2.667 21.78,-2.667 ; 21.78,-2.667 22.236,-2.667 ccw(c23.76,-1.143) 25.284,-2.667 ; 25.284,-2.667 25.74,-2.667 ; 25.284,-2.667 25.74,-2.667 ; 25.284,-2.667 25.74,-2.667
Mechanical 15:
  circle w0.05: c0,0 r0.35
  lines w0.05: -0.5,0 0.5,0 ; 0,-0.5 0,0.5
3D body "HT3.96-LI-1P-ORG.STEP": height 10.05, standoff -2.95, extent 21.76,-3.7 25.76,3.7
3D body "HT3.96-LI-1P-ORG.STEP": height 10.05, standoff -2.95, extent 13.84,-3.7 17.84,3.7
3D body "HT3.96-LI-1P-ORG.STEP": height 10.05, standoff -2.95, extent 17.8,-3.7 21.8,3.7
3D body "HT3.96-LI-1P-ORG.STEP": height 10.05, standoff -2.95, extent 5.92,-3.7 9.92,3.7
3D body "HT3.96-LI-1P-ORG.STEP": height 10.05, standoff -2.95, extent 9.88,-3.7 13.88,3.7
3D body "HT3.96-LI-1P-ORG.STEP": height 10.05, standoff -2.95, extent -2,-3.7 2,3.7
3D body "HT3.96-LI-1P-ORG.STEP": height 10.05, standoff -2.95, extent 1.96,-3.7 5.96,3.7
3D body "HT3.96-LI-1P-ORG.STEP": height 10.05, standoff -2.95, extent -9.92,-3.7 -5.92,3.7
3D body "HT3.96-LI-1P-ORG.STEP": height 10.05, standoff -2.95, extent -5.96,-3.7 -1.96,3.7
3D body "HT3.96-LI-1P-ORG.STEP": height 10.05, standoff -2.95, extent -17.84,-3.7 -13.84,3.7
3D body "HT3.96-LI-1P-ORG.STEP": height 10.05, standoff -2.95, extent -13.88,-3.7 -9.88,3.7
3D body "HT3.96-LI-1P-ORG.STEP": height 10.05, standoff -2.95, extent -25.76,-3.7 -21.76,3.7
3D body "HT3.96-LI-1P-ORG.STEP": height 10.05, standoff -2.95, extent -21.8,-3.7 -17.8,3.7

## HT3.96-LI-14P [mm] "HT3.96立插端子"
pads (14):
  rect 2.4x2.4 hole 1.3: 1(-25.76,0)
  round 2.4 hole 1.3: 2(-21.8,0) 3(-17.84,0) 4(-13.88,0) 5(-9.92,0) 6(-5.96,0) 7(-2,0) 8(1.96,0) 9(5.92,0) 10(9.88,0) 11(13.84,0) 12(17.82,0) 13(21.78,0) 14(25.74,0)
Top Overlay:
  lines w0.203: -27.74,-2.667 -27.284,-2.667 ccw(c-25.76,-1.143) -24.236,-2.667 -23.78,-2.667 -23.324,-2.667 ccw(c-21.8,-1.143) -20.276,-2.667 -19.82,-2.667 -19.364,-2.667 ccw(c-17.84,-1.143) -16.316,-2.667 -15.86,-2.667 -15.404,-2.667 ccw(c-13.88,-1.143) -12.356,-2.667 -11.9,-2.667 -11.444,-2.667 ccw(c-9.92,-1.143) -8.396,-2.667 -7.94,-2.667 -7.484,-2.667 ccw(c-5.96,-1.143) -4.436,-2.667 -3.98,-2.667 -3.524,-2.667 ccw(c-2,-1.143) -0.476,-2.667 -0.02,-2.667 0.436,-2.667 ccw(c1.96,-1.143) 3.484,-2.667 3.94,-2.667 4.396,-2.667 ccw(c5.92,-1.143) 7.444,-2.667 7.9,-2.667 8.356,-2.667 ccw(c9.88,-1.143) 11.404,-2.667 ; -27.74,2.794 -23.855,2.794 ; -23.78,2.794 -19.895,2.794 ; -19.82,2.794 -15.935,2.794 ; -15.86,2.794 -11.975,2.794 ; -11.9,2.794 -8.015,2.794 ; -7.94,2.794 -4.055,2.794 ; -3.98,2.794 -0.095,2.794 ; -0.02,2.794 3.865,2.794 ; 3.94,2.794 7.825,2.794 ; 7.9,2.794 11.785,2.794 ; 11.86,2.794 15.745,2.794 ; 15.82,-3.7 11.86,-3.7 7.9,-3.7 3.94,-3.7 -0.02,-3.7 -3.98,-3.7 -7.94,-3.7 -11.9,-3.7 -15.86,-3.7 -19.82,-3.7 -23.78,-3.7 -27.74,-3.7 -27.74,3.7 -23.78,3.7 -19.82,3.7 -15.86,3.7 -11.9,3.7 -7.94,3.7 -3.98,3.7 -0.02,3.7 3.94,3.7 7.9,3.7 11.86,3.7 15.82,3.7 ; 15.82,-2.667 15.364,-2.667 cw(c13.84,-1.143) 12.316,-2.667 11.86,-2.667 ; 15.84,-3.7 19.8,-3.7 23.76,-3.7 27.72,-3.7 27.72,3.7 23.76,3.7 19.8,3.7 15.84,3.7 ; 15.84,2.794 19.725,2.794 ; 19.8,2.794 23.685,2.794 ; 23.76,2.794 27.645,2.794 ; 11.404,-2.667 11.86,-2.667 ; 11.404,-2.667 11.86,-2.667 ; 15.84,-2.667 15.384,-2.667 15.84,-2.667 ; 15.84,-2.667 16.296,-2.667 ccw(c17.82,-1.143) 19.344,-2.667 ; 19.344,-2.667 19.8,-2.667 ; 19.344,-2.667 19.8,-2.667 ; 19.344,-2.667 19.8,-2.667 ; 19.8,-2.667 20.256,-2.667 ccw(c21.78,-1.143) 23.304,-2.667 ; 23.304,-2.667 23.76,-2.667 ; 23.304,-2.667 23.76,-2.667 ; 23.304,-2.667 23.76,-2.667 ; 23.76,-2.667 24.216,-2.667 ccw(c25.74,-1.143) 27.264,-2.667 ; 27.264,-2.667 27.72,-2.667 ; 27.264,-2.667 27.72,-2.667 ; 27.264,-2.667 27.72,-2.667
Mechanical 15:
  circle w0.05: c0,0 r0.35
  lines w0.05: -0.5,0 0.5,0 ; 0,-0.5 0,0.5
3D body "HT3.96-LI-1P.STEP": height 10.05, standoff -2.95, extent 23.74,-3.7 27.74,3.7
3D body "HT3.96-LI-1P.STEP": height 10.05, standoff -2.95, extent 19.78,-3.7 23.78,3.7
3D body "HT3.96-LI-1P.STEP": height 10.05, standoff -2.95, extent 15.82,-3.7 19.82,3.7
3D body "HT3.96-LI-1P.STEP": height 10.05, standoff -2.95, extent 11.86,-3.7 15.86,3.7
3D body "HT3.96-LI-1P.STEP": height 10.05, standoff -2.95, extent 7.9,-3.7 11.9,3.7
3D body "HT3.96-LI-1P.STEP": height 10.05, standoff -2.95, extent 3.94,-3.7 7.94,3.7
3D body "HT3.96-LI-1P.STEP": height 10.05, standoff -2.95, extent -0.02,-3.7 3.98,3.7
3D body "HT3.96-LI-1P.STEP": height 10.05, standoff -2.95, extent -3.98,-3.7 0.02,3.7
3D body "HT3.96-LI-1P.STEP": height 10.05, standoff -2.95, extent -7.94,-3.7 -3.94,3.7
3D body "HT3.96-LI-1P.STEP": height 10.05, standoff -2.95, extent -11.9,-3.7 -7.9,3.7
3D body "HT3.96-LI-1P.STEP": height 10.05, standoff -2.95, extent -15.86,-3.7 -11.86,3.7
3D body "HT3.96-LI-1P.STEP": height 10.05, standoff -2.95, extent -19.82,-3.7 -15.82,3.7
3D body "HT3.96-LI-1P.STEP": height 10.05, standoff -2.95, extent -23.78,-3.7 -19.78,3.7
3D body "HT3.96-LI-1P.STEP": height 10.05, standoff -2.95, extent -27.74,-3.7 -23.74,3.7

## HT3.96-LI-14P-ORG [mm] "HT3.96立插端子"
pads (14):
  rect 2.4x2.4 hole 1.3: 1(-25.76,0)
  round 2.4 hole 1.3: 2(-21.8,0) 3(-17.84,0) 4(-13.88,0) 5(-9.92,0) 6(-5.96,0) 7(-2,0) 8(1.96,0) 9(5.92,0) 10(9.88,0) 11(13.84,0) 12(17.82,0) 13(21.78,0) 14(25.74,0)
Top Overlay:
  lines w0.203: -27.74,-2.667 -27.284,-2.667 ccw(c-25.76,-1.143) -24.236,-2.667 -23.78,-2.667 -23.324,-2.667 ccw(c-21.8,-1.143) -20.276,-2.667 -19.82,-2.667 -19.364,-2.667 ccw(c-17.84,-1.143) -16.316,-2.667 -15.86,-2.667 -15.404,-2.667 ccw(c-13.88,-1.143) -12.356,-2.667 -11.9,-2.667 -11.444,-2.667 ccw(c-9.92,-1.143) -8.396,-2.667 -7.94,-2.667 -7.484,-2.667 ccw(c-5.96,-1.143) -4.436,-2.667 -3.98,-2.667 -3.524,-2.667 ccw(c-2,-1.143) -0.476,-2.667 -0.02,-2.667 0.436,-2.667 ccw(c1.96,-1.143) 3.484,-2.667 3.94,-2.667 4.396,-2.667 ccw(c5.92,-1.143) 7.444,-2.667 7.9,-2.667 8.356,-2.667 ccw(c9.88,-1.143) 11.404,-2.667 ; -27.74,2.794 -23.855,2.794 ; -23.78,2.794 -19.895,2.794 ; -19.82,2.794 -15.935,2.794 ; -15.86,2.794 -11.975,2.794 ; -11.9,2.794 -8.015,2.794 ; -7.94,2.794 -4.055,2.794 ; -3.98,2.794 -0.095,2.794 ; -0.02,2.794 3.865,2.794 ; 3.94,2.794 7.825,2.794 ; 7.9,2.794 11.785,2.794 ; 11.86,2.794 15.745,2.794 ; 15.82,-3.7 11.86,-3.7 7.9,-3.7 3.94,-3.7 -0.02,-3.7 -3.98,-3.7 -7.94,-3.7 -11.9,-3.7 -15.86,-3.7 -19.82,-3.7 -23.78,-3.7 -27.74,-3.7 -27.74,3.7 -23.78,3.7 -19.82,3.7 -15.86,3.7 -11.9,3.7 -7.94,3.7 -3.98,3.7 -0.02,3.7 3.94,3.7 7.9,3.7 11.86,3.7 15.82,3.7 ; 15.82,-2.667 15.364,-2.667 cw(c13.84,-1.143) 12.316,-2.667 11.86,-2.667 ; 15.84,-3.7 19.8,-3.7 23.76,-3.7 27.72,-3.7 27.72,3.7 23.76,3.7 19.8,3.7 15.84,3.7 ; 15.84,2.794 19.725,2.794 ; 19.8,2.794 23.685,2.794 ; 23.76,2.794 27.645,2.794 ; 11.404,-2.667 11.86,-2.667 ; 11.404,-2.667 11.86,-2.667 ; 15.84,-2.667 15.384,-2.667 15.84,-2.667 ; 15.84,-2.667 16.296,-2.667 ccw(c17.82,-1.143) 19.344,-2.667 ; 19.344,-2.667 19.8,-2.667 ; 19.344,-2.667 19.8,-2.667 ; 19.344,-2.667 19.8,-2.667 ; 19.8,-2.667 20.256,-2.667 ccw(c21.78,-1.143) 23.304,-2.667 ; 23.304,-2.667 23.76,-2.667 ; 23.304,-2.667 23.76,-2.667 ; 23.304,-2.667 23.76,-2.667 ; 23.76,-2.667 24.216,-2.667 ccw(c25.74,-1.143) 27.264,-2.667 ; 27.264,-2.667 27.72,-2.667 ; 27.264,-2.667 27.72,-2.667 ; 27.264,-2.667 27.72,-2.667
Mechanical 15:
  circle w0.05: c0,0 r0.35
  lines w0.05: -0.5,0 0.5,0 ; 0,-0.5 0,0.5
3D body "HT3.96-LI-1P-ORG.STEP": height 10.05, standoff -2.95, extent 19.78,-3.7 23.78,3.7
3D body "HT3.96-LI-1P-ORG.STEP": height 10.05, standoff -2.95, extent 23.74,-3.7 27.74,3.7
3D body "HT3.96-LI-1P-ORG.STEP": height 10.05, standoff -2.95, extent 11.86,-3.7 15.86,3.7
3D body "HT3.96-LI-1P-ORG.STEP": height 10.05, standoff -2.95, extent 15.82,-3.7 19.82,3.7
3D body "HT3.96-LI-1P-ORG.STEP": height 10.05, standoff -2.95, extent 3.94,-3.7 7.94,3.7
3D body "HT3.96-LI-1P-ORG.STEP": height 10.05, standoff -2.95, extent 7.9,-3.7 11.9,3.7
3D body "HT3.96-LI-1P-ORG.STEP": height 10.05, standoff -2.95, extent -3.98,-3.7 0.02,3.7
3D body "HT3.96-LI-1P-ORG.STEP": height 10.05, standoff -2.95, extent -0.02,-3.7 3.98,3.7
3D body "HT3.96-LI-1P-ORG.STEP": height 10.05, standoff -2.95, extent -11.9,-3.7 -7.9,3.7
3D body "HT3.96-LI-1P-ORG.STEP": height 10.05, standoff -2.95, extent -7.94,-3.7 -3.94,3.7
3D body "HT3.96-LI-1P-ORG.STEP": height 10.05, standoff -2.95, extent -19.82,-3.7 -15.82,3.7
3D body "HT3.96-LI-1P-ORG.STEP": height 10.05, standoff -2.95, extent -15.86,-3.7 -11.86,3.7
3D body "HT3.96-LI-1P-ORG.STEP": height 10.05, standoff -2.95, extent -27.74,-3.7 -23.74,3.7
3D body "HT3.96-LI-1P-ORG.STEP": height 10.05, standoff -2.95, extent -23.78,-3.7 -19.78,3.7

## HT3.96-LI-15P [mm] "HT3.96立插端子"
pads (15):
  rect 2.4x2.4 hole 1.3: 1(-27.74,0)
  round 2.4 hole 1.3: 2(-23.78,0) 3(-19.82,0) 4(-15.86,0) 5(-11.9,0) 6(-7.94,0) 7(-3.98,0) 8(-0.02,0) 9(3.94,0) 10(7.9,0) 11(11.86,0) 12(15.84,0) 13(19.8,0) 14(23.76,0) 15(27.72,0)
Top Overlay:
  lines w0.203: -29.72,-2.667 -29.264,-2.667 ccw(c-27.74,-1.143) -26.216,-2.667 -25.76,-2.667 -25.304,-2.667 ccw(c-23.78,-1.143) -22.256,-2.667 -21.8,-2.667 -21.344,-2.667 ccw(c-19.82,-1.143) -18.296,-2.667 -17.84,-2.667 -17.384,-2.667 ccw(c-15.86,-1.143) -14.336,-2.667 -13.88,-2.667 -13.424,-2.667 ccw(c-11.9,-1.143) -10.376,-2.667 -9.92,-2.667 -9.464,-2.667 ccw(c-7.94,-1.143) -6.416,-2.667 -5.96,-2.667 -5.504,-2.667 ccw(c-3.98,-1.143) -2.456,-2.667 -2,-2.667 -1.544,-2.667 ccw(c-0.02,-1.143) 1.504,-2.667 1.96,-2.667 2.416,-2.667 ccw(c3.94,-1.143) 5.464,-2.667 5.92,-2.667 6.376,-2.667 ccw(c7.9,-1.143) 9.424,-2.667 ; -29.72,2.794 -25.835,2.794 ; -25.76,2.794 -21.875,2.794 ; -21.8,2.794 -17.915,2.794 ; -17.84,2.794 -13.955,2.794 ; -13.88,2.794 -9.995,2.794 ; -9.92,2.794 -6.035,2.794 ; -5.96,2.794 -2.075,2.794 ; -2,2.794 1.885,2.794 ; 1.96,2.794 5.845,2.794 ; 5.92,2.794 9.805,2.794 ; 9.88,2.794 13.765,2.794 ; 13.84,-3.7 9.88,-3.7 5.92,-3.7 1.96,-3.7 -2,-3.7 -5.96,-3.7 -9.92,-3.7 -13.88,-3.7 -17.84,-3.7 -21.8,-3.7 -25.76,-3.7 -29.72,-3.7 -29.72,3.7 -25.76,3.7 -21.8,3.7 -17.84,3.7 -13.88,3.7 -9.92,3.7 -5.96,3.7 -2,3.7 1.96,3.7 5.92,3.7 9.88,3.7 13.84,3.7 ; 13.84,-2.667 13.384,-2.667 cw(c11.86,-1.143) 10.336,-2.667 9.88,-2.667 ; 13.86,-3.7 17.82,-3.7 21.78,-3.7 25.74,-3.7 29.7,-3.7 29.7,3.7 25.74,3.7 21.78,3.7 17.82,3.7 13.86,3.7 ; 13.86,2.794 17.745,2.794 ; 17.82,2.794 21.705,2.794 ; 21.78,2.794 25.665,2.794 ; 25.74,2.794 29.625,2.794 ; 29.7,-2.667 29.244,-2.667 cw(c27.72,-1.143) 26.196,-2.667 25.74,-2.667 ; 9.424,-2.667 9.88,-2.667 ; 9.424,-2.667 9.88,-2.667 ; 13.86,-2.667 13.404,-2.667 13.86,-2.667 ; 13.86,-2.667 14.316,-2.667 ccw(c15.84,-1.143) 17.364,-2.667 ; 17.364,-2.667 17.82,-2.667 ; 17.364,-2.667 17.82,-2.667 ; 17.364,-2.667 17.82,-2.667 ; 17.82,-2.667 18.276,-2.667 ccw(c19.8,-1.143) 21.324,-2.667 ; 21.324,-2.667 21.78,-2.667 ; 21.324,-2.667 21.78,-2.667 ; 21.324,-2.667 21.78,-2.667 ; 21.78,-2.667 22.236,-2.667 ccw(c23.76,-1.143) 25.284,-2.667 ; 25.284,-2.667 25.74,-2.667 ; 25.284,-2.667 25.74,-2.667 ; 25.284,-2.667 25.74,-2.667
Mechanical 15:
  circle w0.05: c0,0 r0.35
  lines w0.05: -0.5,0 0.5,0 ; 0,-0.5 0,0.5
3D body "HT3.96-LI-1P.STEP": height 10.05, standoff -2.95, extent -29.72,-3.7 -25.72,3.7
3D body "HT3.96-LI-1P.STEP": height 10.05, standoff -2.95, extent -25.76,-3.7 -21.76,3.7
3D body "HT3.96-LI-1P.STEP": height 10.05, standoff -2.95, extent -21.8,-3.7 -17.8,3.7
3D body "HT3.96-LI-1P.STEP": height 10.05, standoff -2.95, extent -17.84,-3.7 -13.84,3.7
3D body "HT3.96-LI-1P.STEP": height 10.05, standoff -2.95, extent -13.88,-3.7 -9.88,3.7
3D body "HT3.96-LI-1P.STEP": height 10.05, standoff -2.95, extent -9.92,-3.7 -5.92,3.7
3D body "HT3.96-LI-1P.STEP": height 10.05, standoff -2.95, extent -5.96,-3.7 -1.96,3.7
3D body "HT3.96-LI-1P.STEP": height 10.05, standoff -2.95, extent -2,-3.7 2,3.7
3D body "HT3.96-LI-1P.STEP": height 10.05, standoff -2.95, extent 1.96,-3.7 5.96,3.7
3D body "HT3.96-LI-1P.STEP": height 10.05, standoff -2.95, extent 5.92,-3.7 9.92,3.7
3D body "HT3.96-LI-1P.STEP": height 10.05, standoff -2.95, extent 9.88,-3.7 13.88,3.7
3D body "HT3.96-LI-1P.STEP": height 10.05, standoff -2.95, extent 13.84,-3.7 17.84,3.7
3D body "HT3.96-LI-1P.STEP": height 10.05, standoff -2.95, extent 17.8,-3.7 21.8,3.7
3D body "HT3.96-LI-1P.STEP": height 10.05, standoff -2.95, extent 21.76,-3.7 25.76,3.7
3D body "HT3.96-LI-1P.STEP": height 10.05, standoff -2.95, extent 25.72,-3.7 29.72,3.7

## HT3.96-LI-15P-ORG [mm] "HT3.96立插端子"
pads (15):
  rect 2.4x2.4 hole 1.3: 1(-27.74,0)
  round 2.4 hole 1.3: 2(-23.78,0) 3(-19.82,0) 4(-15.86,0) 5(-11.9,0) 6(-7.94,0) 7(-3.98,0) 8(-0.02,0) 9(3.94,0) 10(7.9,0) 11(11.86,0) 12(15.84,0) 13(19.8,0) 14(23.76,0) 15(27.72,0)
Top Overlay:
  lines w0.203: -29.72,-2.667 -29.264,-2.667 ccw(c-27.74,-1.143) -26.216,-2.667 -25.76,-2.667 -25.304,-2.667 ccw(c-23.78,-1.143) -22.256,-2.667 -21.8,-2.667 -21.344,-2.667 ccw(c-19.82,-1.143) -18.296,-2.667 -17.84,-2.667 -17.384,-2.667 ccw(c-15.86,-1.143) -14.336,-2.667 -13.88,-2.667 -13.424,-2.667 ccw(c-11.9,-1.143) -10.376,-2.667 -9.92,-2.667 -9.464,-2.667 ccw(c-7.94,-1.143) -6.416,-2.667 -5.96,-2.667 -5.504,-2.667 ccw(c-3.98,-1.143) -2.456,-2.667 -2,-2.667 -1.544,-2.667 ccw(c-0.02,-1.143) 1.504,-2.667 1.96,-2.667 2.416,-2.667 ccw(c3.94,-1.143) 5.464,-2.667 5.92,-2.667 6.376,-2.667 ccw(c7.9,-1.143) 9.424,-2.667 ; -29.72,2.794 -25.835,2.794 ; -25.76,2.794 -21.875,2.794 ; -21.8,2.794 -17.915,2.794 ; -17.84,2.794 -13.955,2.794 ; -13.88,2.794 -9.995,2.794 ; -9.92,2.794 -6.035,2.794 ; -5.96,2.794 -2.075,2.794 ; -2,2.794 1.885,2.794 ; 1.96,2.794 5.845,2.794 ; 5.92,2.794 9.805,2.794 ; 9.88,2.794 13.765,2.794 ; 13.84,-3.7 9.88,-3.7 5.92,-3.7 1.96,-3.7 -2,-3.7 -5.96,-3.7 -9.92,-3.7 -13.88,-3.7 -17.84,-3.7 -21.8,-3.7 -25.76,-3.7 -29.72,-3.7 -29.72,3.7 -25.76,3.7 -21.8,3.7 -17.84,3.7 -13.88,3.7 -9.92,3.7 -5.96,3.7 -2,3.7 1.96,3.7 5.92,3.7 9.88,3.7 13.84,3.7 ; 13.84,-2.667 13.384,-2.667 cw(c11.86,-1.143) 10.336,-2.667 9.88,-2.667 ; 13.86,-3.7 17.82,-3.7 21.78,-3.7 25.74,-3.7 29.7,-3.7 29.7,3.7 25.74,3.7 21.78,3.7 17.82,3.7 13.86,3.7 ; 13.86,2.794 17.745,2.794 ; 17.82,2.794 21.705,2.794 ; 21.78,2.794 25.665,2.794 ; 25.74,2.794 29.625,2.794 ; 29.7,-2.667 29.244,-2.667 cw(c27.72,-1.143) 26.196,-2.667 25.74,-2.667 ; 9.424,-2.667 9.88,-2.667 ; 9.424,-2.667 9.88,-2.667 ; 13.86,-2.667 13.404,-2.667 13.86,-2.667 ; 13.86,-2.667 14.316,-2.667 ccw(c15.84,-1.143) 17.364,-2.667 ; 17.364,-2.667 17.82,-2.667 ; 17.364,-2.667 17.82,-2.667 ; 17.364,-2.667 17.82,-2.667 ; 17.82,-2.667 18.276,-2.667 ccw(c19.8,-1.143) 21.324,-2.667 ; 21.324,-2.667 21.78,-2.667 ; 21.324,-2.667 21.78,-2.667 ; 21.324,-2.667 21.78,-2.667 ; 21.78,-2.667 22.236,-2.667 ccw(c23.76,-1.143) 25.284,-2.667 ; 25.284,-2.667 25.74,-2.667 ; 25.284,-2.667 25.74,-2.667 ; 25.284,-2.667 25.74,-2.667
Mechanical 15:
  circle w0.05: c0,0 r0.35
  lines w0.05: -0.5,0 0.5,0 ; 0,-0.5 0,0.5
3D body "HT3.96-LI-1P-ORG.STEP": height 10.05, standoff -2.95, extent 25.72,-3.7 29.72,3.7
3D body "HT3.96-LI-1P-ORG.STEP": height 10.05, standoff -2.95, extent 17.8,-3.7 21.8,3.7
3D body "HT3.96-LI-1P-ORG.STEP": height 10.05, standoff -2.95, extent 21.76,-3.7 25.76,3.7
3D body "HT3.96-LI-1P-ORG.STEP": height 10.05, standoff -2.95, extent 9.88,-3.7 13.88,3.7
3D body "HT3.96-LI-1P-ORG.STEP": height 10.05, standoff -2.95, extent 13.84,-3.7 17.84,3.7
3D body "HT3.96-LI-1P-ORG.STEP": height 10.05, standoff -2.95, extent 1.96,-3.7 5.96,3.7
3D body "HT3.96-LI-1P-ORG.STEP": height 10.05, standoff -2.95, extent 5.92,-3.7 9.92,3.7
3D body "HT3.96-LI-1P-ORG.STEP": height 10.05, standoff -2.95, extent -5.96,-3.7 -1.96,3.7
3D body "HT3.96-LI-1P-ORG.STEP": height 10.05, standoff -2.95, extent -2,-3.7 2,3.7
3D body "HT3.96-LI-1P-ORG.STEP": height 10.05, standoff -2.95, extent -13.88,-3.7 -9.88,3.7
3D body "HT3.96-LI-1P-ORG.STEP": height 10.05, standoff -2.95, extent -9.92,-3.7 -5.92,3.7
3D body "HT3.96-LI-1P-ORG.STEP": height 10.05, standoff -2.95, extent -21.8,-3.7 -17.8,3.7
3D body "HT3.96-LI-1P-ORG.STEP": height 10.05, standoff -2.95, extent -17.84,-3.7 -13.84,3.7
3D body "HT3.96-LI-1P-ORG.STEP": height 10.05, standoff -2.95, extent -29.72,-3.7 -25.72,3.7
3D body "HT3.96-LI-1P-ORG.STEP": height 10.05, standoff -2.95, extent -25.76,-3.7 -21.76,3.7

## HT3.96-LI-16P [mm] "HT3.96立插端子"
pads (16):
  rect 2.4x2.4 hole 1.3: 1(-27.74,0)
  round 2.4 hole 1.3: 2(-23.78,0) 3(-19.82,0) 4(-15.86,0) 5(-11.9,0) 6(-7.94,0) 7(-3.98,0) 8(-0.02,0) 9(3.94,0) 10(7.9,0) 11(11.86,0) 12(15.84,0) 13(19.8,0) 14(23.76,0) 15(27.72,0) 16(31.68,0)
Top Overlay:
  lines w0.203: -29.72,-2.667 -29.264,-2.667 ccw(c-27.74,-1.143) -26.216,-2.667 -25.76,-2.667 -25.304,-2.667 ccw(c-23.78,-1.143) -22.256,-2.667 -21.8,-2.667 -21.344,-2.667 ccw(c-19.82,-1.143) -18.296,-2.667 -17.84,-2.667 -17.384,-2.667 ccw(c-15.86,-1.143) -14.336,-2.667 -13.88,-2.667 -13.424,-2.667 ccw(c-11.9,-1.143) -10.376,-2.667 -9.92,-2.667 -9.464,-2.667 ccw(c-7.94,-1.143) -6.416,-2.667 -5.96,-2.667 -5.504,-2.667 ccw(c-3.98,-1.143) -2.456,-2.667 -2,-2.667 -1.544,-2.667 ccw(c-0.02,-1.143) 1.504,-2.667 1.96,-2.667 2.416,-2.667 ccw(c3.94,-1.143) 5.464,-2.667 5.92,-2.667 6.376,-2.667 ccw(c7.9,-1.143) 9.424,-2.667 ; -29.72,2.794 -25.835,2.794 ; -25.76,2.794 -21.875,2.794 ; -21.8,2.794 -17.915,2.794 ; -17.84,2.794 -13.955,2.794 ; -13.88,2.794 -9.995,2.794 ; -9.92,2.794 -6.035,2.794 ; -5.96,2.794 -2.075,2.794 ; -2,2.794 1.885,2.794 ; 1.96,2.794 5.845,2.794 ; 5.92,2.794 9.805,2.794 ; 9.88,2.794 13.765,2.794 ; 13.84,-3.7 9.88,-3.7 5.92,-3.7 1.96,-3.7 -2,-3.7 -5.96,-3.7 -9.92,-3.7 -13.88,-3.7 -17.84,-3.7 -21.8,-3.7 -25.76,-3.7 -29.72,-3.7 -29.72,3.7 -25.76,3.7 -21.8,3.7 -17.84,3.7 -13.88,3.7 -9.92,3.7 -5.96,3.7 -2,3.7 1.96,3.7 5.92,3.7 9.88,3.7 13.84,3.7 ; 13.84,-2.667 13.384,-2.667 cw(c11.86,-1.143) 10.336,-2.667 9.88,-2.667 ; 13.86,-3.7 17.82,-3.7 21.78,-3.7 25.74,-3.7 29.7,-3.7 33.66,-3.7 33.66,3.7 29.7,3.7 25.74,3.7 21.78,3.7 17.82,3.7 13.86,3.7 ; 13.86,2.794 17.745,2.794 ; 17.82,2.794 21.705,2.794 ; 21.78,2.794 25.665,2.794 ; 25.74,2.794 29.625,2.794 ; 29.7,2.794 33.585,2.794 ; 33.66,-2.667 33.204,-2.667 cw(c31.68,-1.143) 30.156,-2.667 29.7,-2.667 ; 9.424,-2.667 9.88,-2.667 ; 9.424,-2.667 9.88,-2.667 ; 13.86,-2.667 13.404,-2.667 13.86,-2.667 ; 13.86,-2.667 14.316,-2.667 ccw(c15.84,-1.143) 17.364,-2.667 ; 17.364,-2.667 17.82,-2.667 ; 17.364,-2.667 17.82,-2.667 ; 17.364,-2.667 17.82,-2.667 ; 17.82,-2.667 18.276,-2.667 ccw(c19.8,-1.143) 21.324,-2.667 ; 21.324,-2.667 21.78,-2.667 ; 21.324,-2.667 21.78,-2.667 ; 21.324,-2.667 21.78,-2.667 ; 21.78,-2.667 22.236,-2.667 ccw(c23.76,-1.143) 25.284,-2.667 ; 25.284,-2.667 25.74,-2.667 ; 25.284,-2.667 25.74,-2.667 ; 25.284,-2.667 25.74,-2.667 ; 25.74,-2.667 26.196,-2.667 ccw(c27.72,-1.143) 29.244,-2.667 ; 29.244,-2.667 29.7,-2.667 ; 29.244,-2.667 29.7,-2.667 ; 29.244,-2.667 29.7,-2.667 ; 29.244,-2.667 29.7,-2.667
Mechanical 15:
  circle w0.05: c0,0 r0.35
  lines w0.05: -0.5,0 0.5,0 ; 0,-0.5 0,0.5
3D body "HT3.96-LI-1P.STEP": height 10.05, standoff -2.95, extent -29.72,-3.7 -25.72,3.7
3D body "HT3.96-LI-1P.STEP": height 10.05, standoff -2.95, extent -25.76,-3.7 -21.76,3.7
3D body "HT3.96-LI-1P.STEP": height 10.05, standoff -2.95, extent -21.8,-3.7 -17.8,3.7
3D body "HT3.96-LI-1P.STEP": height 10.05, standoff -2.95, extent -17.84,-3.7 -13.84,3.7
3D body "HT3.96-LI-1P.STEP": height 10.05, standoff -2.95, extent -13.88,-3.7 -9.88,3.7
3D body "HT3.96-LI-1P.STEP": height 10.05, standoff -2.95, extent -9.92,-3.7 -5.92,3.7
3D body "HT3.96-LI-1P.STEP": height 10.05, standoff -2.95, extent -5.96,-3.7 -1.96,3.7
3D body "HT3.96-LI-1P.STEP": height 10.05, standoff -2.95, extent -2,-3.7 2,3.7
3D body "HT3.96-LI-1P.STEP": height 10.05, standoff -2.95, extent 1.96,-3.7 5.96,3.7
3D body "HT3.96-LI-1P.STEP": height 10.05, standoff -2.95, extent 5.92,-3.7 9.92,3.7
3D body "HT3.96-LI-1P.STEP": height 10.05, standoff -2.95, extent 9.88,-3.7 13.88,3.7
3D body "HT3.96-LI-1P.STEP": height 10.05, standoff -2.95, extent 13.84,-3.7 17.84,3.7
3D body "HT3.96-LI-1P.STEP": height 10.05, standoff -2.95, extent 17.8,-3.7 21.8,3.7
3D body "HT3.96-LI-1P.STEP": height 10.05, standoff -2.95, extent 21.76,-3.7 25.76,3.7
3D body "HT3.96-LI-1P.STEP": height 10.05, standoff -2.95, extent 25.72,-3.7 29.72,3.7
3D body "HT3.96-LI-1P.STEP": height 10.05, standoff -2.95, extent 29.68,-3.7 33.68,3.7

## HT3.96-LI-16P-ORG [mm] "HT3.96立插端子"
pads (16):
  rect 2.4x2.4 hole 1.3: 1(-27.74,0)
  round 2.4 hole 1.3: 2(-23.78,0) 3(-19.82,0) 4(-15.86,0) 5(-11.9,0) 6(-7.94,0) 7(-3.98,0) 8(-0.02,0) 9(3.94,0) 10(7.9,0) 11(11.86,0) 12(15.84,0) 13(19.8,0) 14(23.76,0) 15(27.72,0) 16(31.68,0)
Top Overlay:
  lines w0.203: -29.72,-2.667 -29.264,-2.667 ccw(c-27.74,-1.143) -26.216,-2.667 -25.76,-2.667 -25.304,-2.667 ccw(c-23.78,-1.143) -22.256,-2.667 -21.8,-2.667 -21.344,-2.667 ccw(c-19.82,-1.143) -18.296,-2.667 -17.84,-2.667 -17.384,-2.667 ccw(c-15.86,-1.143) -14.336,-2.667 -13.88,-2.667 -13.424,-2.667 ccw(c-11.9,-1.143) -10.376,-2.667 -9.92,-2.667 -9.464,-2.667 ccw(c-7.94,-1.143) -6.416,-2.667 -5.96,-2.667 -5.504,-2.667 ccw(c-3.98,-1.143) -2.456,-2.667 -2,-2.667 -1.544,-2.667 ccw(c-0.02,-1.143) 1.504,-2.667 1.96,-2.667 2.416,-2.667 ccw(c3.94,-1.143) 5.464,-2.667 5.92,-2.667 6.376,-2.667 ccw(c7.9,-1.143) 9.424,-2.667 ; -29.72,2.794 -25.835,2.794 ; -25.76,2.794 -21.875,2.794 ; -21.8,2.794 -17.915,2.794 ; -17.84,2.794 -13.955,2.794 ; -13.88,2.794 -9.995,2.794 ; -9.92,2.794 -6.035,2.794 ; -5.96,2.794 -2.075,2.794 ; -2,2.794 1.885,2.794 ; 1.96,2.794 5.845,2.794 ; 5.92,2.794 9.805,2.794 ; 9.88,2.794 13.765,2.794 ; 13.84,-3.7 9.88,-3.7 5.92,-3.7 1.96,-3.7 -2,-3.7 -5.96,-3.7 -9.92,-3.7 -13.88,-3.7 -17.84,-3.7 -21.8,-3.7 -25.76,-3.7 -29.72,-3.7 -29.72,3.7 -25.76,3.7 -21.8,3.7 -17.84,3.7 -13.88,3.7 -9.92,3.7 -5.96,3.7 -2,3.7 1.96,3.7 5.92,3.7 9.88,3.7 13.84,3.7 ; 13.84,-2.667 13.384,-2.667 cw(c11.86,-1.143) 10.336,-2.667 9.88,-2.667 ; 13.86,-3.7 17.82,-3.7 21.78,-3.7 25.74,-3.7 29.7,-3.7 33.66,-3.7 33.66,3.7 29.7,3.7 25.74,3.7 21.78,3.7 17.82,3.7 13.86,3.7 ; 13.86,2.794 17.745,2.794 ; 17.82,2.794 21.705,2.794 ; 21.78,2.794 25.665,2.794 ; 25.74,2.794 29.625,2.794 ; 29.7,2.794 33.585,2.794 ; 33.66,-2.667 33.204,-2.667 cw(c31.68,-1.143) 30.156,-2.667 29.7,-2.667 ; 9.424,-2.667 9.88,-2.667 ; 9.424,-2.667 9.88,-2.667 ; 13.86,-2.667 13.404,-2.667 13.86,-2.667 ; 13.86,-2.667 14.316,-2.667 ccw(c15.84,-1.143) 17.364,-2.667 ; 17.364,-2.667 17.82,-2.667 ; 17.364,-2.667 17.82,-2.667 ; 17.364,-2.667 17.82,-2.667 ; 17.82,-2.667 18.276,-2.667 ccw(c19.8,-1.143) 21.324,-2.667 ; 21.324,-2.667 21.78,-2.667 ; 21.324,-2.667 21.78,-2.667 ; 21.324,-2.667 21.78,-2.667 ; 21.78,-2.667 22.236,-2.667 ccw(c23.76,-1.143) 25.284,-2.667 ; 25.284,-2.667 25.74,-2.667 ; 25.284,-2.667 25.74,-2.667 ; 25.284,-2.667 25.74,-2.667 ; 25.74,-2.667 26.196,-2.667 ccw(c27.72,-1.143) 29.244,-2.667 ; 29.244,-2.667 29.7,-2.667 ; 29.244,-2.667 29.7,-2.667 ; 29.244,-2.667 29.7,-2.667 ; 29.244,-2.667 29.7,-2.667
Mechanical 15:
  circle w0.05: c0,0 r0.35
  lines w0.05: -0.5,0 0.5,0 ; 0,-0.5 0,0.5
3D body "HT3.96-LI-1P-ORG.STEP": height 10.05, standoff -2.95, extent 29.68,-3.7 33.68,3.7
3D body "HT3.96-LI-1P-ORG.STEP": height 10.05, standoff -2.95, extent 25.72,-3.7 29.72,3.7
3D body "HT3.96-LI-1P-ORG.STEP": height 10.05, standoff -2.95, extent 17.8,-3.7 21.8,3.7
3D body "HT3.96-LI-1P-ORG.STEP": height 10.05, standoff -2.95, extent 21.76,-3.7 25.76,3.7
3D body "HT3.96-LI-1P-ORG.STEP": height 10.05, standoff -2.95, extent 9.88,-3.7 13.88,3.7
3D body "HT3.96-LI-1P-ORG.STEP": height 10.05, standoff -2.95, extent 13.84,-3.7 17.84,3.7
3D body "HT3.96-LI-1P-ORG.STEP": height 10.05, standoff -2.95, extent 1.96,-3.7 5.96,3.7
3D body "HT3.96-LI-1P-ORG.STEP": height 10.05, standoff -2.95, extent 5.92,-3.7 9.92,3.7
3D body "HT3.96-LI-1P-ORG.STEP": height 10.05, standoff -2.95, extent -5.96,-3.7 -1.96,3.7
3D body "HT3.96-LI-1P-ORG.STEP": height 10.05, standoff -2.95, extent -2,-3.7 2,3.7
3D body "HT3.96-LI-1P-ORG.STEP": height 10.05, standoff -2.95, extent -13.88,-3.7 -9.88,3.7
3D body "HT3.96-LI-1P-ORG.STEP": height 10.05, standoff -2.95, extent -9.92,-3.7 -5.92,3.7
3D body "HT3.96-LI-1P-ORG.STEP": height 10.05, standoff -2.95, extent -21.8,-3.7 -17.8,3.7
3D body "HT3.96-LI-1P-ORG.STEP": height 10.05, standoff -2.95, extent -17.84,-3.7 -13.84,3.7
3D body "HT3.96-LI-1P-ORG.STEP": height 10.05, standoff -2.95, extent -29.72,-3.7 -25.72,3.7
3D body "HT3.96-LI-1P-ORG.STEP": height 10.05, standoff -2.95, extent -25.76,-3.7 -21.76,3.7

## HT3.96-WI-2P [mm] "HT3.96卧插端子"
pads (2):
  rect 2.4x2.4 hole 1.3: 1(-2,0)
  round 2.4 hole 1.3: 2(1.96,0)
Top Overlay:
  lines w0.203: -1.98,-8.255 -1.98,-2.54 ; 1.98,-8.255 1.98,-2.54 ; -3.96,-9.5 -3.96,1.98 0,1.98 3.96,1.98 3.96,-9.5 0,-9.5 -3.96,-9.5 ; -2.107,-8.255 -2.107,-2.54 -1.853,-2.54 -1.853,-8.255 -2.107,-8.255 ; 1.853,-8.255 2.107,-8.255 2.107,-2.54 1.853,-2.54 1.853,-8.255
Mechanical 15:
  circle w0.05: c0,0 r0.35
  lines w0.05: -0.5,0 0.5,0 ; 0,-0.5 0,0.5
3D body "HT3.96-WI-1P.STEP": height 7.45, standoff -3.2, extent -0.02,-9.5 3.98,0.5
3D body "HT3.96-WI-1P.STEP": height 7.45, standoff -3.2, extent -3.98,-9.5 0.02,0.5

## HT3.96-WI-2P-ORG [mm] "HT3.96卧插端子"
pads (2):
  rect 2.4x2.4 hole 1.3: 1(-2,0)
  round 2.4 hole 1.3: 2(1.96,0)
Top Overlay:
  lines w0.203: -1.98,-8.255 -1.98,-2.54 ; 1.98,-8.255 1.98,-2.54 ; -3.96,-9.5 0,-9.5 3.96,-9.5 3.96,1.98 0,1.98 -3.96,1.98 -3.96,-9.5 ; -2.107,-8.255 -1.853,-8.255 -1.853,-2.54 -2.107,-2.54 -2.107,-8.255 ; 1.853,-8.255 1.853,-2.54 2.107,-2.54 2.107,-8.255 1.853,-8.255
Mechanical 15:
  circle w0.05: c0,0 r0.35
  lines w0.05: -0.5,0 0.5,0 ; 0,-0.5 0,0.5
3D body "HT3.96-WI-1P-ORG.STEP": height 7.45, standoff -3.2, extent -3.98,-9.5 0.02,0.5
3D body "HT3.96-WI-1P-ORG.STEP": height 7.45, standoff -3.2, extent -0.02,-9.5 3.98,0.5